# Altium schematic symbol library NAND_VFBGA.SchLib: 1 symbol
Pins are listed as number, name and electrical type; pins without a type are passive.

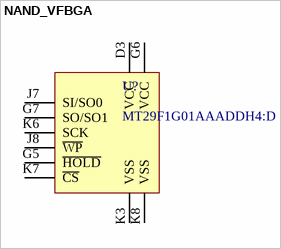
[diagram p0: symbol NAND_VFBGA]

## NAND_VFBGA
designator U?, comment MT29F1G01AAADDH4:D
pins: A1 NC hidden, A2 NC hidden, A9 NC hidden, A10 NC hidden, B1 NC hidden, B9 NC hidden, B10 NC hidden, C3 NC hidden, C4 NC hidden, C5 NC hidden, C6 NC hidden, C7 NC hidden, C8 NC hidden, D3 VCC, D4 NC hidden, D5 NC hidden, D6 NC hidden, D7 NC hidden, D8 NC hidden, E3 NC hidden, E4 NC hidden, E5 NC hidden, E6 NC hidden, E7 NC hidden, E8 NC hidden, F3 NC hidden, F4 NC hidden, F5 NC hidden, F6 NC hidden, F7 NC hidden, F8 NC hidden, G3 NC hidden, G4 NC hidden, G5 ~{HOLD}, G6 NC hidden, G6 VCC, G7 SO/SO1, G8 NC hidden, H3 NC hidden, H4 NC hidden, H5 NC hidden, H6 NC hidden, H7 NC hidden, H8 NC hidden, J3 NC hidden, J4 NC hidden, J5 NC hidden, J6 NC hidden, J7 SI/SO0, J8 ~{WP}, K3 VSS, K4 NC hidden, K5 NC hidden, K6 SCK, K7 ~{CS}, K8 VSS, L1 NC hidden, L2 NC hidden, L9 NC hidden, L10 NC hidden, M1 NC hidden, M2 NC hidden, M9 NC hidden, M10 NC hidden